# EAGLE library part ARJC02 (library con-RJ45)
Abracon: 1 port RJ45 Jack w/ Magnetics and LEDs
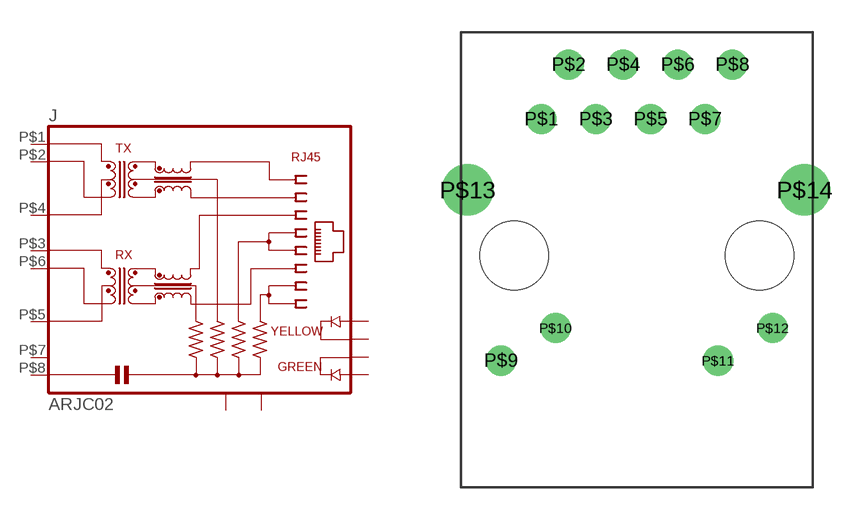
[diagram p6: symbol with the pads of ARJC02; footprint ARJC02]

Designator prefix J

## ARJC02 (DIGIKEY: 535-12604-ND; MFR: Abracon; MPN: ARJC02-1110009D; VALUE: ARJC02)  [ARJC02]
P$1  P1  pas
P$2  P4  pas
P$3  P3  pas
P$4  P2  pas
P$5  P6  pas
P$6  P5  pas
P$7  P7  pas
P$8  P8  pas
P$9  9
P$10  10
P$11  11
P$12  12
P$13  MNT
P$14  MNT2

## Footprint ARJC02 (pad centres in mm)
drill 0.9: P$1 -4.445,6.35; P$2 -3.175,8.89; P$3 -1.905,6.35; P$4 -0.635,8.89; P$5 0.635,6.35; P$6 1.905,8.89; P$7 3.175,6.35; P$8 4.445,8.89; P$9 -6.325,-4.9; P$10 -3.785,-3.38; P$11 3.785,-4.9; P$12 6.325,-3.38
drill 1.6: P$13 -7.875,3.05; P$14 7.815,3.05
hole 3.2 at -5.715,0
hole 3.2 at 5.715,0